# EAGLE library part 739-338/100-000/001-000 (library con-wago_739)
Serie 739, Klemmenleiste für Leiterplatten 1 Einpressstift/Pol / Series 739, PCB terminal strip 1 press-in pin/pole Polzahl / Pole No.: 8 Rastermaß / Pitch: 3.81 mm Bemessungsspannung / Rated Voltage: 160 V Nennstrom / Nominal Current: 4 A Leiterquerschnitt / Conductor Size: 0.08 - 1.5 mm² Anschlusstechnik / Connection Technology: CAGE CLAMP® Leitereinführung (zur Platine) / Conductor entry angle (to PCB): 90 ° Farbe / Color: orange / orange Stand: 01.01.2012. Die jeweils aktuellen Daten zu diesem Artikel finden Sie in unserem Produktkatalog, den Sie unter www.wago.com einsehen können. As of: 01/01/2012. Please find the newest data for this article in our product catalogue, which can be viewed under www.wago.com.
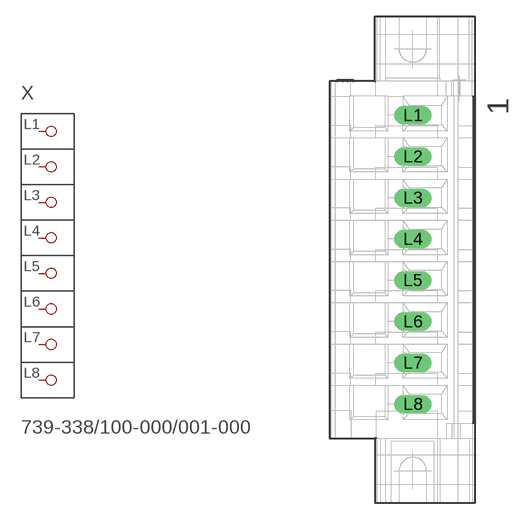
[diagram p32: symbol with the pads of P-739-338/100-000/001-000; footprint P-739-338/100-000/001-000]

Designator prefix X

## 739-338/100-000/001-000  [P-739-338/100-000/001-000]
L1  P1
L2  P2
L3  P3
L4  P4
L5  P5
L6  P6
L7  P7
L8  P8

## Footprint P-739-338/100-000/001-000 (pad centres in mm)
drill 1.15 long: L1 1,13.335; L2 1,9.525; L3 1,5.715; L4 1,1.905; L5 1,-1.905; L6 1,-5.715; L7 1,-9.525; L8 1,-13.335